# Altium schematic symbol library IC COMPARATOR LV 6-UDFN.SchLib: 2 symbols
Pins are listed as number, name and electrical type; pins without a type are passive.

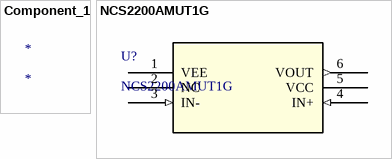
[diagram p0: symbols Component_1 to NCS2200AMUT1G]

## Component_1
designator *

## NCS2200AMUT1G
designator U?
No Description Available; Mfr_Name: onsemi; Copyright: Copyright (C) 2022 Ultra Librarian. All rights reserved.; Manufacturer_Part_Number: NCS2200AMUT1G; Digi-Key_Part_Number_1: 2156-NCS2200AMUT1G-OS-ND; Digi-Key_Part_Number_2: =NCS2200AMUT1G; Digi-Key_Part_Number_3: NCS2200AMUT1GOSCT-ND; Digi-Key_Part_Number_4: NCS2200AMUT1GOSDKR-ND; Digi-Key_Part_Number_5: NCS2200AMUT1GOSTR-ND; RefDes: RefDes; Type: DEV
footprint IC COMPARATOR LV 6-UDFN (Footprint not found)
pins: 1 VEE (power), 2 NC, 3 IN- (in), 4 IN+ (in), 5 VCC (power), 6 VOUT (out)